# EAGLE library part LINE_8 (library Pod3 Lib)
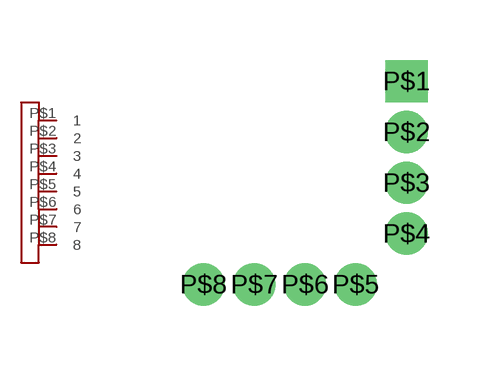
[diagram p3: symbol with the pads of LINE_8; footprint LINE_8]

Designator prefix -

## LINE_8  [LINE_8]
P$1  1
P$2  2
P$3  3
P$4  4
P$5  5
P$6  6
P$7  7
P$8  8

## Footprint LINE_8 (pad centres in mm)
drill 0.55 square: P$1 0,5.08
drill 0.55: P$2 0,3.81; P$3 0,2.54; P$4 0,1.27; P$5 -1.27,0; P$6 -2.54,0; P$7 -3.81,0; P$8 -5.08,0